# Altium integrated library National Semiconductor OtherParts.IntLib: 205 symbols (part 1 of 7)
Pins are listed as number, name and electrical type; pins without a type are passive.

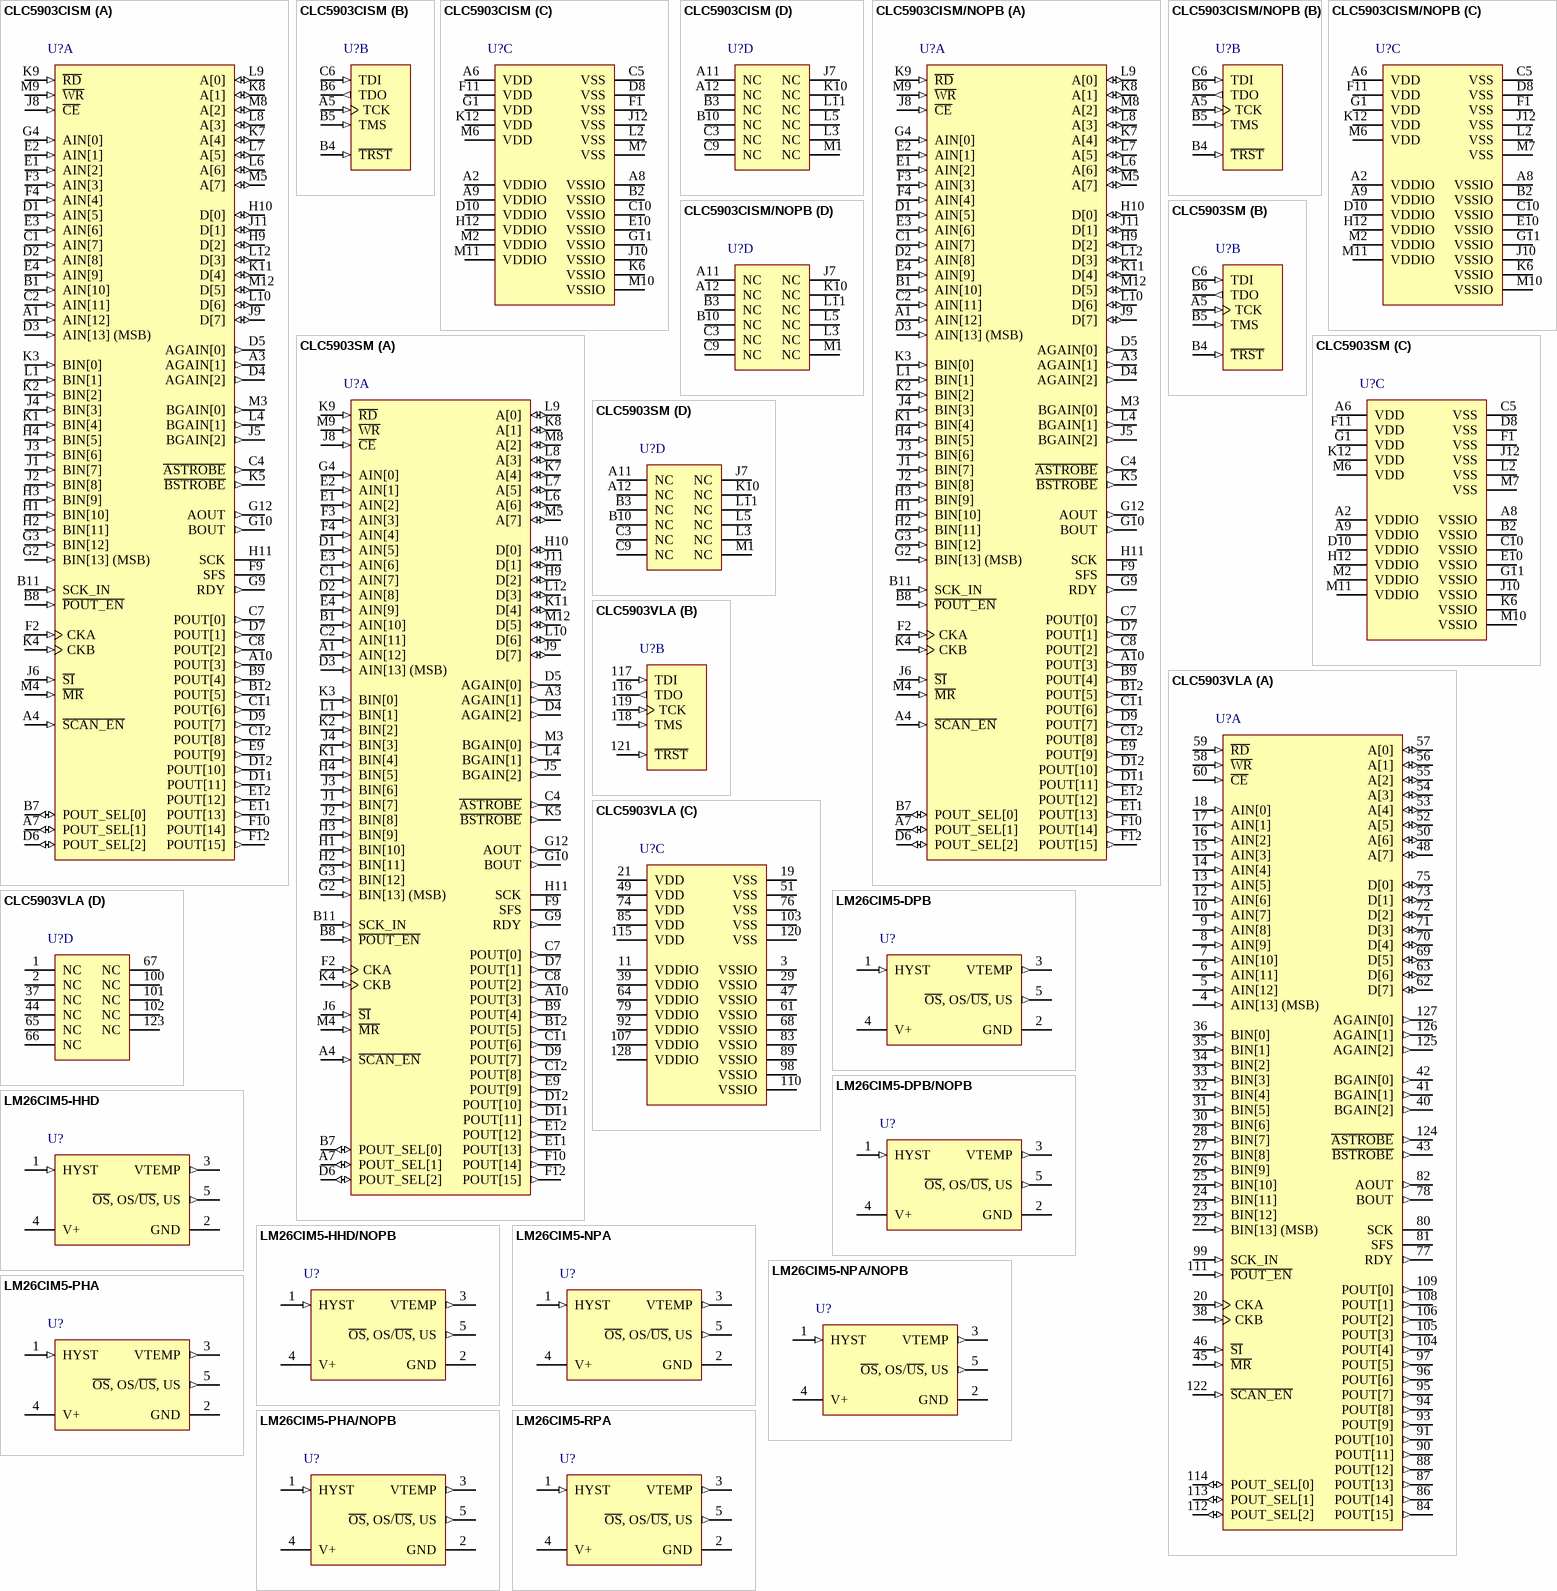
[diagram p0: symbols CLC5903CISM to LM26CIM5-RPA]

## CLC5903CISM
designator U?
Dual Digital Tuner/AGC, 128-pin FBGA; PartNumber: CLC5903CISM; Manufacturer: National Semiconductor; PackageTopMarking: NSUZXYTT*CLC5903*CISM; PowerWise: N; CompType: OtherParts; High-Reliability: Y; DatasheetVersion: Jun-2004; PackageVersion: revA, Nov-2005; PackageReference: SLC128B; PackageDescription: FBGA, Plastic, Laminated, 11 x 11 x 1.4mm Body, 128 Ball, 0.8mm Pitch; RoHS: Y; PinCount: 128; ComponentLink1Description: Manufacturer URL; ComponentLink1URL: http://www.national.com/; ComponentLink2Description: CLC5903 Datasheet; ComponentLink2URL: http://www.national.com/ds/CL/CLC5903.pdf; ComponentLink3Description: CLC5903 Web Page; ComponentLink3URL: http://www.national.com/pf/CL/CLC5903.html; ComponentLink4Description: SLC128B Package Page; ComponentLink4URL: http://www.national.com/packaging/folders/slc128b.html
footprint SLC128B (BGA, 128-Leads, Body 11x11mm, Pitch 0.8mm)
part A pins: A1 AIN[12] (in), A3 AGAIN[1] (out), A4 ~{SCAN_EN} (in), A7 POUT_SEL[1] (io), A10 POUT[3] (out), B1 AIN[10] (in), B7 POUT_SEL[0] (io), B8 ~{POUT_EN} (in), B9 POUT[4] (out), B11 SCK_IN (in), B12 POUT[5] (out), C1 AIN[7] (in), C2 AIN[11] (in), C4 ~{ASTROBE} (out), C7 POUT[0] (out), C8 POUT[2] (out), C11 POUT[6] (out), C12 POUT[8] (out), D1 AIN[5] (in), D2 AIN[8] (in), D3 AIN[13] (MSB) (in), D4 AGAIN[2] (out), D5 AGAIN[0] (out), D6 POUT_SEL[2] (io), D7 POUT[1] (out), D9 POUT[7] (out), D11 POUT[11] (out), D12 POUT[10] (out), E1 AIN[2] (in), E2 AIN[1] (in), E3 AIN[6] (in), E4 AIN[9] (in), E9 POUT[9] (out), E11 POUT[13] (out), E12 POUT[12] (out), F2 CKA (in), F3 AIN[3] (in), F4 AIN[4] (in), F9 SFS, F10 POUT[14] (out), F12 POUT[15] (out), G2 BIN[13] (MSB) (in), G3 BIN[12] (in), G4 AIN[0] (in), G9 RDY (out), G10 BOUT (out), G12 AOUT (out), H1 BIN[10] (in), H2 BIN[11] (in), H3 BIN[9] (in), H4 BIN[5] (in), H9 D[2] (io), H10 D[0] (io), H11 SCK, J1 BIN[7] (in), J2 BIN[8] (in), J3 BIN[6] (in), J4 BIN[3] (in), J5 BGAIN[2] (out), J6 ~{SI} (in), J8 ~{CE} (in), J9 D[7] (io), J11 D[1] (io), K1 BIN[4] (in), K2 BIN[2] (in), K3 BIN[0] (in), K4 CKB (in), K5 ~{BSTROBE} (out), K7 A[4] (io), K8 A[1] (io), K9 ~{RD} (in), K11 D[4] (io), L1 BIN[1] (in), L4 BGAIN[1] (out), L6 A[6] (io), L7 A[5] (io), L8 A[3] (io), L9 A[0] (io), L10 D[6] (io), L12 D[3] (io), M3 BGAIN[0] (out), M4 ~{MR} (in), M5 A[7] (io), M8 A[2] (io), M9 ~{WR} (in), M12 D[5] (io)
part B pins: A5 TCK (in), B4 ~{TRST} (in), B5 TMS (in), B6 TDO (out), C6 TDI (in)
part C pins: A2 VDDIO (power), A6 VDD (power), A8 VSSIO (power), A9 VDDIO (power), B2 VSSIO (power), C5 VSS (power), C10 VSSIO (power), D8 VSS (power), D10 VDDIO (power), E10 VSSIO (power), F1 VSS (power), F11 VDD (power), G1 VDD (power), G11 VSSIO (power), H12 VDDIO (power), J10 VSSIO (power), J12 VSS (power), K6 VSSIO (power), K12 VDD (power), L2 VSS (power), M2 VDDIO (power), M6 VDD (power), M7 VSS (power), M10 VSSIO (power), M11 VDDIO (power)
part D pins: A11 NC, A12 NC, B3 NC, B10 NC, C3 NC, C9 NC, J7 NC, K10 NC, L3 NC, L5 NC, L11 NC, M1 NC

## CLC5903CISM/NOPB
designator U?
Dual Digital Tuner/AGC, 128-pin FBGA, Pb-Free; PartNumber: CLC5903CISM/NOPB; Manufacturer: National Semiconductor; PackageTopMarking: NSUZXYTTE#*CLC5903*CISM; PowerWise: N; CompType: OtherParts; High-Reliability: Y; DatasheetVersion: Jun-2004; PackageVersion: revA, Nov-2005; PackageReference: SLC128B; PackageDescription: FBGA, Plastic, Laminated, 11 x 11 x 1.4mm Body, 128 Ball, 0.8mm Pitch; RoHS: Y; PinCount: 128; ComponentLink1Description: Manufacturer URL; ComponentLink1URL: http://www.national.com/; ComponentLink2Description: CLC5903 Datasheet; ComponentLink2URL: http://www.national.com/ds/CL/CLC5903.pdf; ComponentLink3Description: CLC5903 Web Page; ComponentLink3URL: http://www.national.com/pf/CL/CLC5903.html; ComponentLink4Description: SLC128B Package Page; ComponentLink4URL: http://www.national.com/packaging/folders/slc128b.html
footprint SLC128B (BGA, 128-Leads, Body 11x11mm, Pitch 0.8mm)
part A pins: A1 AIN[12] (in), A3 AGAIN[1] (out), A4 ~{SCAN_EN} (in), A7 POUT_SEL[1] (io), A10 POUT[3] (out), B1 AIN[10] (in), B7 POUT_SEL[0] (io), B8 ~{POUT_EN} (in), B9 POUT[4] (out), B11 SCK_IN (in), B12 POUT[5] (out), C1 AIN[7] (in), C2 AIN[11] (in), C4 ~{ASTROBE} (out), C7 POUT[0] (out), C8 POUT[2] (out), C11 POUT[6] (out), C12 POUT[8] (out), D1 AIN[5] (in), D2 AIN[8] (in), D3 AIN[13] (MSB) (in), D4 AGAIN[2] (out), D5 AGAIN[0] (out), D6 POUT_SEL[2] (io), D7 POUT[1] (out), D9 POUT[7] (out), D11 POUT[11] (out), D12 POUT[10] (out), E1 AIN[2] (in), E2 AIN[1] (in), E3 AIN[6] (in), E4 AIN[9] (in), E9 POUT[9] (out), E11 POUT[13] (out), E12 POUT[12] (out), F2 CKA (in), F3 AIN[3] (in), F4 AIN[4] (in), F9 SFS, F10 POUT[14] (out), F12 POUT[15] (out), G2 BIN[13] (MSB) (in), G3 BIN[12] (in), G4 AIN[0] (in), G9 RDY (out), G10 BOUT (out), G12 AOUT (out), H1 BIN[10] (in), H2 BIN[11] (in), H3 BIN[9] (in), H4 BIN[5] (in), H9 D[2] (io), H10 D[0] (io), H11 SCK, J1 BIN[7] (in), J2 BIN[8] (in), J3 BIN[6] (in), J4 BIN[3] (in), J5 BGAIN[2] (out), J6 ~{SI} (in), J8 ~{CE} (in), J9 D[7] (io), J11 D[1] (io), K1 BIN[4] (in), K2 BIN[2] (in), K3 BIN[0] (in), K4 CKB (in), K5 ~{BSTROBE} (out), K7 A[4] (io), K8 A[1] (io), K9 ~{RD} (in), K11 D[4] (io), L1 BIN[1] (in), L4 BGAIN[1] (out), L6 A[6] (io), L7 A[5] (io), L8 A[3] (io), L9 A[0] (io), L10 D[6] (io), L12 D[3] (io), M3 BGAIN[0] (out), M4 ~{MR} (in), M5 A[7] (io), M8 A[2] (io), M9 ~{WR} (in), M12 D[5] (io)
part B pins: A5 TCK (in), B4 ~{TRST} (in), B5 TMS (in), B6 TDO (out), C6 TDI (in)
part C pins: A2 VDDIO (power), A6 VDD (power), A8 VSSIO (power), A9 VDDIO (power), B2 VSSIO (power), C5 VSS (power), C10 VSSIO (power), D8 VSS (power), D10 VDDIO (power), E10 VSSIO (power), F1 VSS (power), F11 VDD (power), G1 VDD (power), G11 VSSIO (power), H12 VDDIO (power), J10 VSSIO (power), J12 VSS (power), K6 VSSIO (power), K12 VDD (power), L2 VSS (power), M2 VDDIO (power), M6 VDD (power), M7 VSS (power), M10 VSSIO (power), M11 VDDIO (power)
part D pins: A11 NC, A12 NC, B3 NC, B10 NC, C3 NC, C9 NC, J7 NC, K10 NC, L3 NC, L5 NC, L11 NC, M1 NC

## CLC5903SM
designator U?
Dual Digital Tuner / AGC, 128-pin FBGA; PartNumber: CLC5903SM; Manufacturer: National Semiconductor; PackageTopMarking: NSUZXYYTTE#*CLC5903SM; PowerWise: N; CompType: OtherParts; High-Reliability: Y; DatasheetVersion: Jun-2004; PackageVersion: revA, Oct-2003; PackageReference: SLC128A; PackageDescription: FBGA, Plastic, Laminated, 11 x 11 x 1.4mm Body, 128 Ball, 0.8mm Pitch; RoHS: N; PinCount: 128; ComponentLink1Description: Manufacturer URL; ComponentLink1URL: http://www.national.com/; ComponentLink2Description: CLC5903 Datasheet; ComponentLink2URL: http://www.national.com/ds/CL/CLC5903.pdf; ComponentLink3Description: CLC5903 Web Page; ComponentLink3URL: http://www.national.com/pf/CL/CLC5903.html; ComponentLink4Description: SLC128A Package Page; ComponentLink4URL: http://www.national.com/packaging/folders/slc128a.html
footprint SLC128A (BGA, 128-Leads, Body 11x11mm, Pitch 0.8mm)
part A pins: A1 AIN[12] (in), A3 AGAIN[1] (out), A4 ~{SCAN_EN} (in), A7 POUT_SEL[1] (io), A10 POUT[3] (out), B1 AIN[10] (in), B7 POUT_SEL[0] (io), B8 ~{POUT_EN} (in), B9 POUT[4] (out), B11 SCK_IN (in), B12 POUT[5] (out), C1 AIN[7] (in), C2 AIN[11] (in), C4 ~{ASTROBE} (out), C7 POUT[0] (out), C8 POUT[2] (out), C11 POUT[6] (out), C12 POUT[8] (out), D1 AIN[5] (in), D2 AIN[8] (in), D3 AIN[13] (MSB) (in), D4 AGAIN[2] (out), D5 AGAIN[0] (out), D6 POUT_SEL[2] (io), D7 POUT[1] (out), D9 POUT[7] (out), D11 POUT[11] (out), D12 POUT[10] (out), E1 AIN[2] (in), E2 AIN[1] (in), E3 AIN[6] (in), E4 AIN[9] (in), E9 POUT[9] (out), E11 POUT[13] (out), E12 POUT[12] (out), F2 CKA (in), F3 AIN[3] (in), F4 AIN[4] (in), F9 SFS, F10 POUT[14] (out), F12 POUT[15] (out), G2 BIN[13] (MSB) (in), G3 BIN[12] (in), G4 AIN[0] (in), G9 RDY (out), G10 BOUT (out), G12 AOUT (out), H1 BIN[10] (in), H2 BIN[11] (in), H3 BIN[9] (in), H4 BIN[5] (in), H9 D[2] (io), H10 D[0] (io), H11 SCK, J1 BIN[7] (in), J2 BIN[8] (in), J3 BIN[6] (in), J4 BIN[3] (in), J5 BGAIN[2] (out), J6 ~{SI} (in), J8 ~{CE} (in), J9 D[7] (io), J11 D[1] (io), K1 BIN[4] (in), K2 BIN[2] (in), K3 BIN[0] (in), K4 CKB (in), K5 ~{BSTROBE} (out), K7 A[4] (io), K8 A[1] (io), K9 ~{RD} (in), K11 D[4] (io), L1 BIN[1] (in), L4 BGAIN[1] (out), L6 A[6] (io), L7 A[5] (io), L8 A[3] (io), L9 A[0] (io), L10 D[6] (io), L12 D[3] (io), M3 BGAIN[0] (out), M4 ~{MR} (in), M5 A[7] (io), M8 A[2] (io), M9 ~{WR} (in), M12 D[5] (io)
part B pins: A5 TCK (in), B4 ~{TRST} (in), B5 TMS (in), B6 TDO (out), C6 TDI (in)
part C pins: A2 VDDIO (power), A6 VDD (power), A8 VSSIO (power), A9 VDDIO (power), B2 VSSIO (power), C5 VSS (power), C10 VSSIO (power), D8 VSS (power), D10 VDDIO (power), E10 VSSIO (power), F1 VSS (power), F11 VDD (power), G1 VDD (power), G11 VSSIO (power), H12 VDDIO (power), J10 VSSIO (power), J12 VSS (power), K6 VSSIO (power), K12 VDD (power), L2 VSS (power), M2 VDDIO (power), M6 VDD (power), M7 VSS (power), M10 VSSIO (power), M11 VDDIO (power)
part D pins: A11 NC, A12 NC, B3 NC, B10 NC, C3 NC, C9 NC, J7 NC, K10 NC, L3 NC, L5 NC, L11 NC, M1 NC

## CLC5903VLA
designator U?
Dual Digital Tuner / AGC, 128-pin PQFP; PartNumber: CLC5903VLA; Manufacturer: National Semiconductor; PackageTopMarking: NSUZXYYTTE#*CLC5903VLA; PowerWise: N; CompType: OtherParts; High-Reliability: Y; DatasheetVersion: Jun-2004; PackageVersion: revC, Jun-1998; PackageReference: VLA128A; PackageDescription: PQFP, (S), 14 x 20 x 2.7mm, 128 Lead; RoHS: N; PinCount: 128; ComponentLink1Description: Manufacturer URL; ComponentLink1URL: http://www.national.com/; ComponentLink2Description: CLC5903 Datasheet; ComponentLink2URL: http://www.national.com/ds/CL/CLC5903.pdf; ComponentLink3Description: CLC5903 Web Page; ComponentLink3URL: http://www.national.com/pf/CL/CLC5903.html; ComponentLink4Description: VLA128A Package Page; ComponentLink4URL: http://www.national.com/packaging/folders/vla128a.html
footprint VLA128A_N (Shrink QFP, 128-Leads, Body 20x14 mm, Pitch 0.5mm, IPC Medium Density)
footprint VLA128A_L (Shrink QFP, 128-Leads, Body 20x14 mm, Pitch 0.5mm, IPC High Density)
footprint VLA128A_M (Shrink QFP, 128-Leads, Body 20x14 mm, Pitch 0.5mm, IPC Low Density)
part A pins: 4 AIN[13] (MSB) (in), 5 AIN[12] (in), 6 AIN[11] (in), 7 AIN[10] (in), 8 AIN[9] (in), 9 AIN[8] (in), 10 AIN[7] (in), 12 AIN[6] (in), 13 AIN[5] (in), 14 AIN[4] (in), 15 AIN[3] (in), 16 AIN[2] (in), 17 AIN[1] (in), 18 AIN[0] (in), 20 CKA (in), 22 BIN[13] (MSB) (in), 23 BIN[12] (in), 24 BIN[11] (in), 25 BIN[10] (in), 26 BIN[9] (in), 27 BIN[8] (in), 28 BIN[7] (in), 30 BIN[6] (in), 31 BIN[5] (in), 32 BIN[4] (in), 33 BIN[3] (in), 34 BIN[2] (in), 35 BIN[1] (in), 36 BIN[0] (in), 38 CKB (in), 40 BGAIN[2] (out), 41 BGAIN[1] (out), 42 BGAIN[0] (out), 43 ~{BSTROBE} (out), 45 ~{MR} (in), 46 ~{SI} (in), 48 A[7] (io), 50 A[6] (io), 52 A[5] (io), 53 A[4] (io), 54 A[3] (io), 55 A[2] (io), 56 A[1] (io), 57 A[0] (io), 58 ~{WR} (in), 59 ~{RD} (in), 60 ~{CE} (in), 62 D[7] (io), 63 D[6] (io), 69 D[5] (io), 70 D[4] (io), 71 D[3] (io), 72 D[2] (io), 73 D[1] (io), 75 D[0] (io), 77 RDY (out), 78 BOUT (out), 80 SCK, 81 SFS, 82 AOUT (out), 84 POUT[15] (out), 86 POUT[14] (out), 87 POUT[13] (out), 88 POUT[12] (out), 90 POUT[11] (out), 91 POUT[10] (out), 93 POUT[9] (out), 94 POUT[8] (out), 95 POUT[7] (out), 96 POUT[6] (out), 97 POUT[5] (out), 99 SCK_IN (in), 104 POUT[4] (out), 105 POUT[3] (out), 106 POUT[2] (out), 108 POUT[1] (out), 109 POUT[0] (out), 111 ~{POUT_EN} (in), 112 POUT_SEL[2] (io), 113 POUT_SEL[1] (io), 114 POUT_SEL[0] (io), 122 ~{SCAN_EN} (in), 124 ~{ASTROBE} (out), 125 AGAIN[2] (out), 126 AGAIN[1] (out), 127 AGAIN[0] (out)
part B pins: 116 TDO (out), 117 TDI (in), 118 TMS (in), 119 TCK (in), 121 ~{TRST} (in)
part C pins: 3 VSSIO (power), 11 VDDIO (power), 19 VSS (power), 21 VDD (power), 29 VSSIO (power), 39 VDDIO (power), 47 VSSIO (power), 49 VDD (power), 51 VSS (power), 61 VSSIO (power), 64 VDDIO (power), 68 VSSIO (power), 74 VDD (power), 76 VSS (power), 79 VDDIO (power), 83 VSSIO (power), 85 VDD (power), 89 VSSIO (power), 92 VDDIO (power), 98 VSSIO (power), 103 VSS (power), 107 VDDIO (power), 110 VSSIO (power), 115 VDD (power), 120 VSS (power), 128 VDDIO (power)
part D pins: 1 NC, 2 NC, 37 NC, 44 NC, 65 NC, 66 NC, 67 NC, 100 NC, 101 NC, 102 NC, 123 NC

## LM26CIM5-DPB
designator U?
±3°C Accurate, Factory Preset Thermostat, 5-pin SOT-23; PartNumber: LM26CIM5-DPB; Manufacturer: National Semiconductor; PackageTopMarking: TDPB*XTT; PowerWise: Y; CompType: OtherParts; DatasheetVersion: Sep-2009; PackageVersion: revD, Aug-2008; PackageReference: MF05A; PackageDescription: Molded SOT-23, .115 x .063 x .040 in Body, 5 Lead, .0375 in Pitch; RoHS: Y; PinCount: 5; High-Reliability: Y; ComponentLink1Description: Manufacturer URL; ComponentLink1URL: http://www.national.com/; ComponentLink2Description: LM26 Datasheet; ComponentLink2URL: http://www.national.com/ds/LM/LM26.pdf; ComponentLink3Description: LM26 Web Page; ComponentLink3URL: http://www.national.com/pf/LM/LM26.html; ComponentLink4Description: MF05A Package Page; ComponentLink4URL: http://www.national.com/packaging/folders/mf05a.html
footprint MF05A_N (SOT23, 5-Leads, Body 2.9x1.6mm, Pitch 0.95mm, Lead Span 2.8mm, IPC Medium Density)
footprint MF05A_L (SOT23, 5-Leads, Body 2.9x1.6mm, Pitch 0.95mm, Lead Span 2.8mm, IPC High Density)
footprint MF05A_M (SOT23, 5-Leads, Body 2.9x1.6mm, Pitch 0.95mm, Lead Span 2.8mm, IPC Low Density)
pins: 1 HYST (in), 2 GND (power), 3 VTEMP (out), 4 V+ (power), 5 ~{OS}, OS/~{US}, US (out)

## LM26CIM5-DPB/NOPB
designator U?
±3°C Accurate, Factory Preset Thermostat, 5-pin SOT-23, Pb-Free; PartNumber: LM26CIM5-DPB/NOPB; Manufacturer: National Semiconductor; PackageTopMarking: TDPB*XTT; PowerWise: Y; CompType: OtherParts; DatasheetVersion: Sep-2009; PackageVersion: revD, Aug-2008; PackageReference: MF05A; PackageDescription: Molded SOT-23, .115 x .063 x .040 in Body, 5 Lead, .0375 in Pitch; RoHS: Y; PinCount: 5; High-Reliability: Y; ComponentLink1Description: Manufacturer URL; ComponentLink1URL: http://www.national.com/; ComponentLink2Description: LM26 Datasheet; ComponentLink2URL: http://www.national.com/ds/LM/LM26.pdf; ComponentLink3Description: LM26 Web Page; ComponentLink3URL: http://www.national.com/pf/LM/LM26.html; ComponentLink4Description: MF05A Package Page; ComponentLink4URL: http://www.national.com/packaging/folders/mf05a.html
footprint MF05A_N (SOT23, 5-Leads, Body 2.9x1.6mm, Pitch 0.95mm, Lead Span 2.8mm, IPC Medium Density)
footprint MF05A_L (SOT23, 5-Leads, Body 2.9x1.6mm, Pitch 0.95mm, Lead Span 2.8mm, IPC High Density)
footprint MF05A_M (SOT23, 5-Leads, Body 2.9x1.6mm, Pitch 0.95mm, Lead Span 2.8mm, IPC Low Density)
pins: 1 HYST (in), 2 GND (power), 3 VTEMP (out), 4 V+ (power), 5 ~{OS}, OS/~{US}, US (out)

## LM26CIM5-HHD
designator U?
±3°C Accurate, Factory Preset Thermostat, 5-pin SOT-23; PartNumber: LM26CIM5-HHD; Manufacturer: National Semiconductor; PackageTopMarking: THHD*XTT; PowerWise: Y; CompType: OtherParts; DatasheetVersion: Sep-2009; PackageVersion: revD, Aug-2008; PackageReference: MF05A; PackageDescription: Molded SOT-23, .115 x .063 x .040 in Body, 5 Lead, .0375 in Pitch; RoHS: N; PinCount: 5; High-Reliability: Y; ComponentLink1Description: Manufacturer URL; ComponentLink1URL: http://www.national.com/; ComponentLink2Description: LM26 Datasheet; ComponentLink2URL: http://www.national.com/ds/LM/LM26.pdf; ComponentLink3Description: LM26 Web Page; ComponentLink3URL: http://www.national.com/pf/LM/LM26.html; ComponentLink4Description: MF05A Package Page; ComponentLink4URL: http://www.national.com/packaging/folders/mf05a.html
footprint MF05A_N (SOT23, 5-Leads, Body 2.9x1.6mm, Pitch 0.95mm, Lead Span 2.8mm, IPC Medium Density)
footprint MF05A_L (SOT23, 5-Leads, Body 2.9x1.6mm, Pitch 0.95mm, Lead Span 2.8mm, IPC High Density)
footprint MF05A_M (SOT23, 5-Leads, Body 2.9x1.6mm, Pitch 0.95mm, Lead Span 2.8mm, IPC Low Density)
pins: 1 HYST (in), 2 GND (power), 3 VTEMP (out), 4 V+ (power), 5 ~{OS}, OS/~{US}, US (out)

## LM26CIM5-HHD/NOPB
designator U?
±3°C Accurate, Factory Preset Thermostat, 5-pin SOT-23, Pb-Free; PartNumber: LM26CIM5-HHD/NOPB; Manufacturer: National Semiconductor; PackageTopMarking: THHD*XTT; PowerWise: Y; CompType: OtherParts; DatasheetVersion: Sep-2009; PackageVersion: revD, Aug-2008; PackageReference: MF05A; PackageDescription: Molded SOT-23, .115 x .063 x .040 in Body, 5 Lead, .0375 in Pitch; RoHS: Y; PinCount: 5; High-Reliability: Y; ComponentLink1Description: Manufacturer URL; ComponentLink1URL: http://www.national.com/; ComponentLink2Description: LM26 Datasheet; ComponentLink2URL: http://www.national.com/ds/LM/LM26.pdf; ComponentLink3Description: LM26 Web Page; ComponentLink3URL: http://www.national.com/pf/LM/LM26.html; ComponentLink4Description: MF05A Package Page; ComponentLink4URL: http://www.national.com/packaging/folders/mf05a.html
footprint MF05A_N (SOT23, 5-Leads, Body 2.9x1.6mm, Pitch 0.95mm, Lead Span 2.8mm, IPC Medium Density)
footprint MF05A_L (SOT23, 5-Leads, Body 2.9x1.6mm, Pitch 0.95mm, Lead Span 2.8mm, IPC High Density)
footprint MF05A_M (SOT23, 5-Leads, Body 2.9x1.6mm, Pitch 0.95mm, Lead Span 2.8mm, IPC Low Density)
pins: 1 HYST (in), 2 GND (power), 3 VTEMP (out), 4 V+ (power), 5 ~{OS}, OS/~{US}, US (out)

## LM26CIM5-NPA
designator U?
±3°C Accurate, Factory Preset Thermostat, 5-pin SOT-23; PartNumber: LM26CIM5-NPA; Manufacturer: National Semiconductor; PackageTopMarking: TNPA*XTT; PowerWise: Y; CompType: OtherParts; DatasheetVersion: Sep-2009; PackageVersion: revD, Aug-2008; PackageReference: MF05A; PackageDescription: Molded SOT-23, .115 x .063 x .040 in Body, 5 Lead, .0375 in Pitch; RoHS: N; PinCount: 5; High-Reliability: Y; ComponentLink1Description: Manufacturer URL; ComponentLink1URL: http://www.national.com/; ComponentLink2Description: LM26 Datasheet; ComponentLink2URL: http://www.national.com/ds/LM/LM26.pdf; ComponentLink3Description: LM26 Web Page; ComponentLink3URL: http://www.national.com/pf/LM/LM26.html; ComponentLink4Description: MF05A Package Page; ComponentLink4URL: http://www.national.com/packaging/folders/mf05a.html
footprint MF05A_N (SOT23, 5-Leads, Body 2.9x1.6mm, Pitch 0.95mm, Lead Span 2.8mm, IPC Medium Density)
footprint MF05A_L (SOT23, 5-Leads, Body 2.9x1.6mm, Pitch 0.95mm, Lead Span 2.8mm, IPC High Density)
footprint MF05A_M (SOT23, 5-Leads, Body 2.9x1.6mm, Pitch 0.95mm, Lead Span 2.8mm, IPC Low Density)
pins: 1 HYST (in), 2 GND (power), 3 VTEMP (out), 4 V+ (power), 5 ~{OS}, OS/~{US}, US (out)

## LM26CIM5-NPA/NOPB
designator U?
±3°C Accurate, Factory Preset Thermostat, 5-pin SOT-23, Pb-Free; PartNumber: LM26CIM5-NPA/NOPB; Manufacturer: National Semiconductor; PackageTopMarking: TNPA*XTT; PowerWise: Y; CompType: OtherParts; DatasheetVersion: Sep-2009; PackageVersion: revD, Aug-2008; PackageReference: MF05A; PackageDescription: Molded SOT-23, .115 x .063 x .040 in Body, 5 Lead, .0375 in Pitch; RoHS: Y; PinCount: 5; High-Reliability: Y; ComponentLink1Description: Manufacturer URL; ComponentLink1URL: http://www.national.com/; ComponentLink2Description: LM26 Datasheet; ComponentLink2URL: http://www.national.com/ds/LM/LM26.pdf; ComponentLink3Description: LM26 Web Page; ComponentLink3URL: http://www.national.com/pf/LM/LM26.html; ComponentLink4Description: MF05A Package Page; ComponentLink4URL: http://www.national.com/packaging/folders/mf05a.html
footprint MF05A_N (SOT23, 5-Leads, Body 2.9x1.6mm, Pitch 0.95mm, Lead Span 2.8mm, IPC Medium Density)
footprint MF05A_L (SOT23, 5-Leads, Body 2.9x1.6mm, Pitch 0.95mm, Lead Span 2.8mm, IPC High Density)
footprint MF05A_M (SOT23, 5-Leads, Body 2.9x1.6mm, Pitch 0.95mm, Lead Span 2.8mm, IPC Low Density)
pins: 1 HYST (in), 2 GND (power), 3 VTEMP (out), 4 V+ (power), 5 ~{OS}, OS/~{US}, US (out)

## LM26CIM5-PHA
designator U?
±3°C Accurate, Factory Preset Thermostat, 5-pin SOT-23; PartNumber: LM26CIM5-PHA; Manufacturer: National Semiconductor; PackageTopMarking: TPHA*XTT; PowerWise: Y; CompType: OtherParts; DatasheetVersion: Sep-2009; PackageVersion: revD, Aug-2008; PackageReference: MF05A; PackageDescription: Molded SOT-23, .115 x .063 x .040 in Body, 5 Lead, .0375 in Pitch; RoHS: N; PinCount: 5; High-Reliability: Y; ComponentLink1Description: Manufacturer URL; ComponentLink1URL: http://www.national.com/; ComponentLink2Description: LM26 Datasheet; ComponentLink2URL: http://www.national.com/ds/LM/LM26.pdf; ComponentLink3Description: LM26 Web Page; ComponentLink3URL: http://www.national.com/pf/LM/LM26.html; ComponentLink4Description: MF05A Package Page; ComponentLink4URL: http://www.national.com/packaging/folders/mf05a.html
footprint MF05A_N (SOT23, 5-Leads, Body 2.9x1.6mm, Pitch 0.95mm, Lead Span 2.8mm, IPC Medium Density)
footprint MF05A_L (SOT23, 5-Leads, Body 2.9x1.6mm, Pitch 0.95mm, Lead Span 2.8mm, IPC High Density)
footprint MF05A_M (SOT23, 5-Leads, Body 2.9x1.6mm, Pitch 0.95mm, Lead Span 2.8mm, IPC Low Density)
pins: 1 HYST (in), 2 GND (power), 3 VTEMP (out), 4 V+ (power), 5 ~{OS}, OS/~{US}, US (out)

## LM26CIM5-PHA/NOPB
designator U?
±3°C Accurate, Factory Preset Thermostat, 5-pin SOT-23, Pb-Free; PartNumber: LM26CIM5-PHA/NOPB; Manufacturer: National Semiconductor; PackageTopMarking: TPHA*XTT; PowerWise: Y; CompType: OtherParts; DatasheetVersion: Sep-2009; PackageVersion: revD, Aug-2008; PackageReference: MF05A; PackageDescription: Molded SOT-23, .115 x .063 x .040 in Body, 5 Lead, .0375 in Pitch; RoHS: Y; PinCount: 5; High-Reliability: Y; ComponentLink1Description: Manufacturer URL; ComponentLink1URL: http://www.national.com/; ComponentLink2Description: LM26 Datasheet; ComponentLink2URL: http://www.national.com/ds/LM/LM26.pdf; ComponentLink3Description: LM26 Web Page; ComponentLink3URL: http://www.national.com/pf/LM/LM26.html; ComponentLink4Description: MF05A Package Page; ComponentLink4URL: http://www.national.com/packaging/folders/mf05a.html
footprint MF05A_N (SOT23, 5-Leads, Body 2.9x1.6mm, Pitch 0.95mm, Lead Span 2.8mm, IPC Medium Density)
footprint MF05A_L (SOT23, 5-Leads, Body 2.9x1.6mm, Pitch 0.95mm, Lead Span 2.8mm, IPC High Density)
footprint MF05A_M (SOT23, 5-Leads, Body 2.9x1.6mm, Pitch 0.95mm, Lead Span 2.8mm, IPC Low Density)
pins: 1 HYST (in), 2 GND (power), 3 VTEMP (out), 4 V+ (power), 5 ~{OS}, OS/~{US}, US (out)

## LM26CIM5-RPA
designator U?
±3°C Accurate, Factory Preset Thermostat, 5-pin SOT-23; PartNumber: LM26CIM5-RPA; Manufacturer: National Semiconductor; PackageTopMarking: TRPA*XTT; PowerWise: Y; CompType: OtherParts; DatasheetVersion: Sep-2009; PackageVersion: revD, Aug-2008; PackageReference: MF05A; PackageDescription: Molded SOT-23, .115 x .063 x .040 in Body, 5 Lead, .0375 in Pitch; RoHS: N; PinCount: 5; High-Reliability: Y; ComponentLink1Description: Manufacturer URL; ComponentLink1URL: http://www.national.com/; ComponentLink2Description: LM26 Datasheet; ComponentLink2URL: http://www.national.com/ds/LM/LM26.pdf; ComponentLink3Description: LM26 Web Page; ComponentLink3URL: http://www.national.com/pf/LM/LM26.html; ComponentLink4Description: MF05A Package Page; ComponentLink4URL: http://www.national.com/packaging/folders/mf05a.html
footprint MF05A_N (SOT23, 5-Leads, Body 2.9x1.6mm, Pitch 0.95mm, Lead Span 2.8mm, IPC Medium Density)
footprint MF05A_L (SOT23, 5-Leads, Body 2.9x1.6mm, Pitch 0.95mm, Lead Span 2.8mm, IPC High Density)
footprint MF05A_M (SOT23, 5-Leads, Body 2.9x1.6mm, Pitch 0.95mm, Lead Span 2.8mm, IPC Low Density)
pins: 1 HYST (in), 2 GND (power), 3 VTEMP (out), 4 V+ (power), 5 ~{OS}, OS/~{US}, US (out)

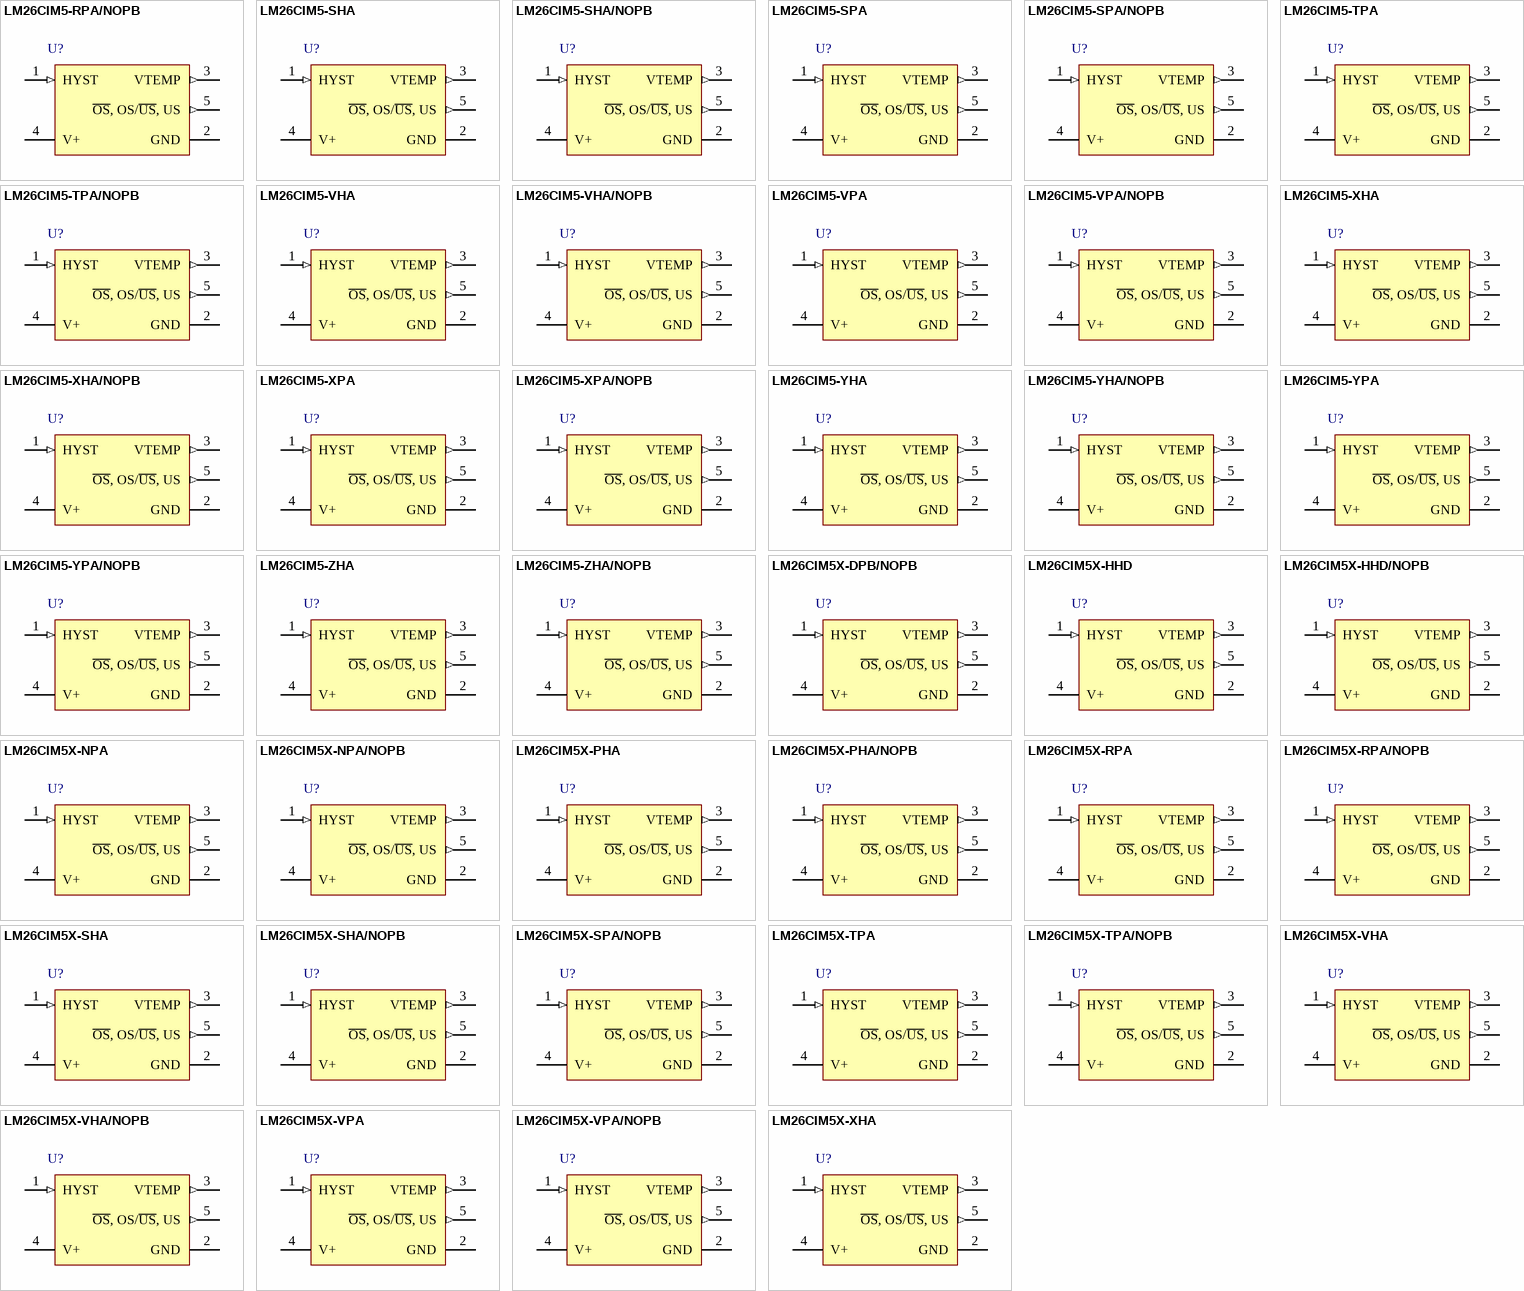
[diagram p1: symbols LM26CIM5-RPA/NOPB to LM26CIM5X-XHA]

## LM26CIM5-RPA/NOPB
designator U?
±3°C Accurate, Factory Preset Thermostat, 5-pin SOT-23, Pb-Free; PartNumber: LM26CIM5-RPA/NOPB; Manufacturer: National Semiconductor; PackageTopMarking: TRPA*XTT; PowerWise: Y; CompType: OtherParts; DatasheetVersion: Sep-2009; PackageVersion: revD, Aug-2008; PackageReference: MF05A; PackageDescription: Molded SOT-23, .115 x .063 x .040 in Body, 5 Lead, .0375 in Pitch; RoHS: Y; PinCount: 5; High-Reliability: Y; ComponentLink1Description: Manufacturer URL; ComponentLink1URL: http://www.national.com/; ComponentLink2Description: LM26 Datasheet; ComponentLink2URL: http://www.national.com/ds/LM/LM26.pdf; ComponentLink3Description: LM26 Web Page; ComponentLink3URL: http://www.national.com/pf/LM/LM26.html; ComponentLink4Description: MF05A Package Page; ComponentLink4URL: http://www.national.com/packaging/folders/mf05a.html
footprint MF05A_N (SOT23, 5-Leads, Body 2.9x1.6mm, Pitch 0.95mm, Lead Span 2.8mm, IPC Medium Density)
footprint MF05A_L (SOT23, 5-Leads, Body 2.9x1.6mm, Pitch 0.95mm, Lead Span 2.8mm, IPC High Density)
footprint MF05A_M (SOT23, 5-Leads, Body 2.9x1.6mm, Pitch 0.95mm, Lead Span 2.8mm, IPC Low Density)
pins: 1 HYST (in), 2 GND (power), 3 VTEMP (out), 4 V+ (power), 5 ~{OS}, OS/~{US}, US (out)

## LM26CIM5-SHA
designator U?
±3°C Accurate, Factory Preset Thermostat, 5-pin SOT-23; PartNumber: LM26CIM5-SHA; Manufacturer: National Semiconductor; PackageTopMarking: TSHA*XTT; PowerWise: Y; CompType: OtherParts; DatasheetVersion: Sep-2009; PackageVersion: revD, Aug-2008; PackageReference: MF05A; PackageDescription: Molded SOT-23, .115 x .063 x .040 in Body, 5 Lead, .0375 in Pitch; RoHS: N; PinCount: 5; High-Reliability: Y; ComponentLink1Description: Manufacturer URL; ComponentLink1URL: http://www.national.com/; ComponentLink2Description: LM26 Datasheet; ComponentLink2URL: http://www.national.com/ds/LM/LM26.pdf; ComponentLink3Description: LM26 Web Page; ComponentLink3URL: http://www.national.com/pf/LM/LM26.html; ComponentLink4Description: MF05A Package Page; ComponentLink4URL: http://www.national.com/packaging/folders/mf05a.html
footprint MF05A_N (SOT23, 5-Leads, Body 2.9x1.6mm, Pitch 0.95mm, Lead Span 2.8mm, IPC Medium Density)
footprint MF05A_L (SOT23, 5-Leads, Body 2.9x1.6mm, Pitch 0.95mm, Lead Span 2.8mm, IPC High Density)
footprint MF05A_M (SOT23, 5-Leads, Body 2.9x1.6mm, Pitch 0.95mm, Lead Span 2.8mm, IPC Low Density)
pins: 1 HYST (in), 2 GND (power), 3 VTEMP (out), 4 V+ (power), 5 ~{OS}, OS/~{US}, US (out)

## LM26CIM5-SHA/NOPB
designator U?
±3°C Accurate, Factory Preset Thermostat, 5-pin SOT-23, Pb-Free; PartNumber: LM26CIM5-SHA/NOPB; Manufacturer: National Semiconductor; PackageTopMarking: TSHA*XTT; PowerWise: Y; CompType: OtherParts; DatasheetVersion: Sep-2009; PackageVersion: revD, Aug-2008; PackageReference: MF05A; PackageDescription: Molded SOT-23, .115 x .063 x .040 in Body, 5 Lead, .0375 in Pitch; RoHS: Y; PinCount: 5; High-Reliability: Y; ComponentLink1Description: Manufacturer URL; ComponentLink1URL: http://www.national.com/; ComponentLink2Description: LM26 Datasheet; ComponentLink2URL: http://www.national.com/ds/LM/LM26.pdf; ComponentLink3Description: LM26 Web Page; ComponentLink3URL: http://www.national.com/pf/LM/LM26.html; ComponentLink4Description: MF05A Package Page; ComponentLink4URL: http://www.national.com/packaging/folders/mf05a.html
footprint MF05A_N (SOT23, 5-Leads, Body 2.9x1.6mm, Pitch 0.95mm, Lead Span 2.8mm, IPC Medium Density)
footprint MF05A_L (SOT23, 5-Leads, Body 2.9x1.6mm, Pitch 0.95mm, Lead Span 2.8mm, IPC High Density)
footprint MF05A_M (SOT23, 5-Leads, Body 2.9x1.6mm, Pitch 0.95mm, Lead Span 2.8mm, IPC Low Density)
pins: 1 HYST (in), 2 GND (power), 3 VTEMP (out), 4 V+ (power), 5 ~{OS}, OS/~{US}, US (out)

## LM26CIM5-SPA
designator U?
±3°C Accurate, Factory Preset Thermostat, 5-pin SOT-23; PartNumber: LM26CIM5-SPA; Manufacturer: National Semiconductor; PackageTopMarking: TSPA*XTT; PowerWise: Y; CompType: OtherParts; DatasheetVersion: Sep-2009; PackageVersion: revD, Aug-2008; PackageReference: MF05A; PackageDescription: Molded SOT-23, .115 x .063 x .040 in Body, 5 Lead, .0375 in Pitch; RoHS: N; PinCount: 5; High-Reliability: Y; ComponentLink1Description: Manufacturer URL; ComponentLink1URL: http://www.national.com/; ComponentLink2Description: LM26 Datasheet; ComponentLink2URL: http://www.national.com/ds/LM/LM26.pdf; ComponentLink3Description: LM26 Web Page; ComponentLink3URL: http://www.national.com/pf/LM/LM26.html; ComponentLink4Description: MF05A Package Page; ComponentLink4URL: http://www.national.com/packaging/folders/mf05a.html
footprint MF05A_N (SOT23, 5-Leads, Body 2.9x1.6mm, Pitch 0.95mm, Lead Span 2.8mm, IPC Medium Density)
footprint MF05A_L (SOT23, 5-Leads, Body 2.9x1.6mm, Pitch 0.95mm, Lead Span 2.8mm, IPC High Density)
footprint MF05A_M (SOT23, 5-Leads, Body 2.9x1.6mm, Pitch 0.95mm, Lead Span 2.8mm, IPC Low Density)
pins: 1 HYST (in), 2 GND (power), 3 VTEMP (out), 4 V+ (power), 5 ~{OS}, OS/~{US}, US (out)

## LM26CIM5-SPA/NOPB
designator U?
±3°C Accurate, Factory Preset Thermostat, 5-pin SOT-23, Pb-Free; PartNumber: LM26CIM5-SPA/NOPB; Manufacturer: National Semiconductor; PackageTopMarking: TSPA*XTT; PowerWise: Y; CompType: OtherParts; DatasheetVersion: Sep-2009; PackageVersion: revD, Aug-2008; PackageReference: MF05A; PackageDescription: Molded SOT-23, .115 x .063 x .040 in Body, 5 Lead, .0375 in Pitch; RoHS: Y; PinCount: 5; High-Reliability: Y; ComponentLink1Description: Manufacturer URL; ComponentLink1URL: http://www.national.com/; ComponentLink2Description: LM26 Datasheet; ComponentLink2URL: http://www.national.com/ds/LM/LM26.pdf; ComponentLink3Description: LM26 Web Page; ComponentLink3URL: http://www.national.com/pf/LM/LM26.html; ComponentLink4Description: MF05A Package Page; ComponentLink4URL: http://www.national.com/packaging/folders/mf05a.html
footprint MF05A_N (SOT23, 5-Leads, Body 2.9x1.6mm, Pitch 0.95mm, Lead Span 2.8mm, IPC Medium Density)
footprint MF05A_L (SOT23, 5-Leads, Body 2.9x1.6mm, Pitch 0.95mm, Lead Span 2.8mm, IPC High Density)
footprint MF05A_M (SOT23, 5-Leads, Body 2.9x1.6mm, Pitch 0.95mm, Lead Span 2.8mm, IPC Low Density)
pins: 1 HYST (in), 2 GND (power), 3 VTEMP (out), 4 V+ (power), 5 ~{OS}, OS/~{US}, US (out)

## LM26CIM5-TPA
designator U?
±3°C Accurate, Factory Preset Thermostat, 5-pin SOT-23; PartNumber: LM26CIM5-TPA; Manufacturer: National Semiconductor; PackageTopMarking: TTPA*XTT; PowerWise: Y; CompType: OtherParts; DatasheetVersion: Sep-2009; PackageVersion: revD, Aug-2008; PackageReference: MF05A; PackageDescription: Molded SOT-23, .115 x .063 x .040 in Body, 5 Lead, .0375 in Pitch; RoHS: N; PinCount: 5; High-Reliability: Y; ComponentLink1Description: Manufacturer URL; ComponentLink1URL: http://www.national.com/; ComponentLink2Description: LM26 Datasheet; ComponentLink2URL: http://www.national.com/ds/LM/LM26.pdf; ComponentLink3Description: LM26 Web Page; ComponentLink3URL: http://www.national.com/pf/LM/LM26.html; ComponentLink4Description: MF05A Package Page; ComponentLink4URL: http://www.national.com/packaging/folders/mf05a.html
footprint MF05A_N (SOT23, 5-Leads, Body 2.9x1.6mm, Pitch 0.95mm, Lead Span 2.8mm, IPC Medium Density)
footprint MF05A_L (SOT23, 5-Leads, Body 2.9x1.6mm, Pitch 0.95mm, Lead Span 2.8mm, IPC High Density)
footprint MF05A_M (SOT23, 5-Leads, Body 2.9x1.6mm, Pitch 0.95mm, Lead Span 2.8mm, IPC Low Density)
pins: 1 HYST (in), 2 GND (power), 3 VTEMP (out), 4 V+ (power), 5 ~{OS}, OS/~{US}, US (out)

## LM26CIM5-TPA/NOPB
designator U?
±3°C Accurate, Factory Preset Thermostat, 5-pin SOT-23, Pb-Free; PartNumber: LM26CIM5-TPA/NOPB; Manufacturer: National Semiconductor; PackageTopMarking: TTPA*XTT; PowerWise: Y; CompType: OtherParts; DatasheetVersion: Sep-2009; PackageVersion: revD, Aug-2008; PackageReference: MF05A; PackageDescription: Molded SOT-23, .115 x .063 x .040 in Body, 5 Lead, .0375 in Pitch; RoHS: Y; PinCount: 5; High-Reliability: Y; ComponentLink1Description: Manufacturer URL; ComponentLink1URL: http://www.national.com/; ComponentLink2Description: LM26 Datasheet; ComponentLink2URL: http://www.national.com/ds/LM/LM26.pdf; ComponentLink3Description: LM26 Web Page; ComponentLink3URL: http://www.national.com/pf/LM/LM26.html; ComponentLink4Description: MF05A Package Page; ComponentLink4URL: http://www.national.com/packaging/folders/mf05a.html
footprint MF05A_N (SOT23, 5-Leads, Body 2.9x1.6mm, Pitch 0.95mm, Lead Span 2.8mm, IPC Medium Density)
footprint MF05A_L (SOT23, 5-Leads, Body 2.9x1.6mm, Pitch 0.95mm, Lead Span 2.8mm, IPC High Density)
footprint MF05A_M (SOT23, 5-Leads, Body 2.9x1.6mm, Pitch 0.95mm, Lead Span 2.8mm, IPC Low Density)
pins: 1 HYST (in), 2 GND (power), 3 VTEMP (out), 4 V+ (power), 5 ~{OS}, OS/~{US}, US (out)

## LM26CIM5-VHA
designator U?
±3°C Accurate, Factory Preset Thermostat, 5-pin SOT-23; PartNumber: LM26CIM5-VHA; Manufacturer: National Semiconductor; PackageTopMarking: TVHA*XTT; PowerWise: Y; CompType: OtherParts; DatasheetVersion: Sep-2009; PackageVersion: revD, Aug-2008; PackageReference: MF05A; PackageDescription: Molded SOT-23, .115 x .063 x .040 in Body, 5 Lead, .0375 in Pitch; RoHS: N; PinCount: 5; High-Reliability: Y; ComponentLink1Description: Manufacturer URL; ComponentLink1URL: http://www.national.com/; ComponentLink2Description: LM26 Datasheet; ComponentLink2URL: http://www.national.com/ds/LM/LM26.pdf; ComponentLink3Description: LM26 Web Page; ComponentLink3URL: http://www.national.com/pf/LM/LM26.html; ComponentLink4Description: MF05A Package Page; ComponentLink4URL: http://www.national.com/packaging/folders/mf05a.html
footprint MF05A_N (SOT23, 5-Leads, Body 2.9x1.6mm, Pitch 0.95mm, Lead Span 2.8mm, IPC Medium Density)
footprint MF05A_L (SOT23, 5-Leads, Body 2.9x1.6mm, Pitch 0.95mm, Lead Span 2.8mm, IPC High Density)
footprint MF05A_M (SOT23, 5-Leads, Body 2.9x1.6mm, Pitch 0.95mm, Lead Span 2.8mm, IPC Low Density)
pins: 1 HYST (in), 2 GND (power), 3 VTEMP (out), 4 V+ (power), 5 ~{OS}, OS/~{US}, US (out)

## LM26CIM5-VHA/NOPB
designator U?
±3°C Accurate, Factory Preset Thermostat, 5-pin SOT-23, Pb-Free; PartNumber: LM26CIM5-VHA/NOPB; Manufacturer: National Semiconductor; PackageTopMarking: TVHA*XTT; PowerWise: Y; CompType: OtherParts; DatasheetVersion: Sep-2009; PackageVersion: revD, Aug-2008; PackageReference: MF05A; PackageDescription: Molded SOT-23, .115 x .063 x .040 in Body, 5 Lead, .0375 in Pitch; RoHS: Y; PinCount: 5; High-Reliability: Y; ComponentLink1Description: Manufacturer URL; ComponentLink1URL: http://www.national.com/; ComponentLink2Description: LM26 Datasheet; ComponentLink2URL: http://www.national.com/ds/LM/LM26.pdf; ComponentLink3Description: LM26 Web Page; ComponentLink3URL: http://www.national.com/pf/LM/LM26.html; ComponentLink4Description: MF05A Package Page; ComponentLink4URL: http://www.national.com/packaging/folders/mf05a.html
footprint MF05A_N (SOT23, 5-Leads, Body 2.9x1.6mm, Pitch 0.95mm, Lead Span 2.8mm, IPC Medium Density)
footprint MF05A_L (SOT23, 5-Leads, Body 2.9x1.6mm, Pitch 0.95mm, Lead Span 2.8mm, IPC High Density)
footprint MF05A_M (SOT23, 5-Leads, Body 2.9x1.6mm, Pitch 0.95mm, Lead Span 2.8mm, IPC Low Density)
pins: 1 HYST (in), 2 GND (power), 3 VTEMP (out), 4 V+ (power), 5 ~{OS}, OS/~{US}, US (out)

## LM26CIM5-VPA
designator U?
±3°C Accurate, Factory Preset Thermostat, 5-pin SOT-23; PartNumber: LM26CIM5-VPA; Manufacturer: National Semiconductor; PackageTopMarking: TVPA*XTT; PowerWise: Y; CompType: OtherParts; DatasheetVersion: Sep-2009; PackageVersion: revD, Aug-2008; PackageReference: MF05A; PackageDescription: Molded SOT-23, .115 x .063 x .040 in Body, 5 Lead, .0375 in Pitch; RoHS: N; PinCount: 5; High-Reliability: Y; ComponentLink1Description: Manufacturer URL; ComponentLink1URL: http://www.national.com/; ComponentLink2Description: LM26 Datasheet; ComponentLink2URL: http://www.national.com/ds/LM/LM26.pdf; ComponentLink3Description: LM26 Web Page; ComponentLink3URL: http://www.national.com/pf/LM/LM26.html; ComponentLink4Description: MF05A Package Page; ComponentLink4URL: http://www.national.com/packaging/folders/mf05a.html
footprint MF05A_N (SOT23, 5-Leads, Body 2.9x1.6mm, Pitch 0.95mm, Lead Span 2.8mm, IPC Medium Density)
footprint MF05A_L (SOT23, 5-Leads, Body 2.9x1.6mm, Pitch 0.95mm, Lead Span 2.8mm, IPC High Density)
footprint MF05A_M (SOT23, 5-Leads, Body 2.9x1.6mm, Pitch 0.95mm, Lead Span 2.8mm, IPC Low Density)
pins: 1 HYST (in), 2 GND (power), 3 VTEMP (out), 4 V+ (power), 5 ~{OS}, OS/~{US}, US (out)

## LM26CIM5-VPA/NOPB
designator U?
±3°C Accurate, Factory Preset Thermostat, 5-pin SOT-23, Pb-Free; PartNumber: LM26CIM5-VPA/NOPB; Manufacturer: National Semiconductor; PackageTopMarking: TVPA*XTT; PowerWise: Y; CompType: OtherParts; DatasheetVersion: Sep-2009; PackageVersion: revD, Aug-2008; PackageReference: MF05A; PackageDescription: Molded SOT-23, .115 x .063 x .040 in Body, 5 Lead, .0375 in Pitch; RoHS: Y; PinCount: 5; High-Reliability: Y; ComponentLink1Description: Manufacturer URL; ComponentLink1URL: http://www.national.com/; ComponentLink2Description: LM26 Datasheet; ComponentLink2URL: http://www.national.com/ds/LM/LM26.pdf; ComponentLink3Description: LM26 Web Page; ComponentLink3URL: http://www.national.com/pf/LM/LM26.html; ComponentLink4Description: MF05A Package Page; ComponentLink4URL: http://www.national.com/packaging/folders/mf05a.html
footprint MF05A_N (SOT23, 5-Leads, Body 2.9x1.6mm, Pitch 0.95mm, Lead Span 2.8mm, IPC Medium Density)
footprint MF05A_L (SOT23, 5-Leads, Body 2.9x1.6mm, Pitch 0.95mm, Lead Span 2.8mm, IPC High Density)
footprint MF05A_M (SOT23, 5-Leads, Body 2.9x1.6mm, Pitch 0.95mm, Lead Span 2.8mm, IPC Low Density)
pins: 1 HYST (in), 2 GND (power), 3 VTEMP (out), 4 V+ (power), 5 ~{OS}, OS/~{US}, US (out)

## LM26CIM5-XHA
designator U?
±3°C Accurate, Factory Preset Thermostat, 5-pin SOT-23; PartNumber: LM26CIM5-XHA; Manufacturer: National Semiconductor; PackageTopMarking: TXHA*XTT; PowerWise: Y; CompType: OtherParts; DatasheetVersion: Sep-2009; PackageVersion: revD, Aug-2008; PackageReference: MF05A; PackageDescription: Molded SOT-23, .115 x .063 x .040 in Body, 5 Lead, .0375 in Pitch; RoHS: N; PinCount: 5; High-Reliability: Y; ComponentLink1Description: Manufacturer URL; ComponentLink1URL: http://www.national.com/; ComponentLink2Description: LM26 Datasheet; ComponentLink2URL: http://www.national.com/ds/LM/LM26.pdf; ComponentLink3Description: LM26 Web Page; ComponentLink3URL: http://www.national.com/pf/LM/LM26.html; ComponentLink4Description: MF05A Package Page; ComponentLink4URL: http://www.national.com/packaging/folders/mf05a.html
footprint MF05A_N (SOT23, 5-Leads, Body 2.9x1.6mm, Pitch 0.95mm, Lead Span 2.8mm, IPC Medium Density)
footprint MF05A_L (SOT23, 5-Leads, Body 2.9x1.6mm, Pitch 0.95mm, Lead Span 2.8mm, IPC High Density)
footprint MF05A_M (SOT23, 5-Leads, Body 2.9x1.6mm, Pitch 0.95mm, Lead Span 2.8mm, IPC Low Density)
pins: 1 HYST (in), 2 GND (power), 3 VTEMP (out), 4 V+ (power), 5 ~{OS}, OS/~{US}, US (out)

## LM26CIM5-XHA/NOPB
designator U?
±3°C Accurate, Factory Preset Thermostat, 5-pin SOT-23, Pb-Free; PartNumber: LM26CIM5-XHA/NOPB; Manufacturer: National Semiconductor; PackageTopMarking: TXHA*XTT; PowerWise: Y; CompType: OtherParts; DatasheetVersion: Sep-2009; PackageVersion: revD, Aug-2008; PackageReference: MF05A; PackageDescription: Molded SOT-23, .115 x .063 x .040 in Body, 5 Lead, .0375 in Pitch; RoHS: Y; PinCount: 5; High-Reliability: Y; ComponentLink1Description: Manufacturer URL; ComponentLink1URL: http://www.national.com/; ComponentLink2Description: LM26 Datasheet; ComponentLink2URL: http://www.national.com/ds/LM/LM26.pdf; ComponentLink3Description: LM26 Web Page; ComponentLink3URL: http://www.national.com/pf/LM/LM26.html; ComponentLink4Description: MF05A Package Page; ComponentLink4URL: http://www.national.com/packaging/folders/mf05a.html
footprint MF05A_N (SOT23, 5-Leads, Body 2.9x1.6mm, Pitch 0.95mm, Lead Span 2.8mm, IPC Medium Density)
footprint MF05A_L (SOT23, 5-Leads, Body 2.9x1.6mm, Pitch 0.95mm, Lead Span 2.8mm, IPC High Density)
footprint MF05A_M (SOT23, 5-Leads, Body 2.9x1.6mm, Pitch 0.95mm, Lead Span 2.8mm, IPC Low Density)
pins: 1 HYST (in), 2 GND (power), 3 VTEMP (out), 4 V+ (power), 5 ~{OS}, OS/~{US}, US (out)

## LM26CIM5-XPA
designator U?
±3°C Accurate, Factory Preset Thermostat, 5-pin SOT-23; PartNumber: LM26CIM5-XPA; Manufacturer: National Semiconductor; PackageTopMarking: TXPA*XTT; PowerWise: Y; CompType: OtherParts; DatasheetVersion: Sep-2009; PackageVersion: revD, Aug-2008; PackageReference: MF05A; PackageDescription: Molded SOT-23, .115 x .063 x .040 in Body, 5 Lead, .0375 in Pitch; RoHS: N; PinCount: 5; High-Reliability: Y; ComponentLink1Description: Manufacturer URL; ComponentLink1URL: http://www.national.com/; ComponentLink2Description: LM26 Datasheet; ComponentLink2URL: http://www.national.com/ds/LM/LM26.pdf; ComponentLink3Description: LM26 Web Page; ComponentLink3URL: http://www.national.com/pf/LM/LM26.html; ComponentLink4Description: MF05A Package Page; ComponentLink4URL: http://www.national.com/packaging/folders/mf05a.html
footprint MF05A_N (SOT23, 5-Leads, Body 2.9x1.6mm, Pitch 0.95mm, Lead Span 2.8mm, IPC Medium Density)
footprint MF05A_L (SOT23, 5-Leads, Body 2.9x1.6mm, Pitch 0.95mm, Lead Span 2.8mm, IPC High Density)
footprint MF05A_M (SOT23, 5-Leads, Body 2.9x1.6mm, Pitch 0.95mm, Lead Span 2.8mm, IPC Low Density)
pins: 1 HYST (in), 2 GND (power), 3 VTEMP (out), 4 V+ (power), 5 ~{OS}, OS/~{US}, US (out)

## LM26CIM5-XPA/NOPB
designator U?
±3°C Accurate, Factory Preset Thermostat, 5-pin SOT-23, Pb-Free; PartNumber: LM26CIM5-XPA/NOPB; Manufacturer: National Semiconductor; PackageTopMarking: TXPA*XTT; PowerWise: Y; CompType: OtherParts; DatasheetVersion: Sep-2009; PackageVersion: revD, Aug-2008; PackageReference: MF05A; PackageDescription: Molded SOT-23, .115 x .063 x .040 in Body, 5 Lead, .0375 in Pitch; RoHS: Y; PinCount: 5; High-Reliability: Y; ComponentLink1Description: Manufacturer URL; ComponentLink1URL: http://www.national.com/; ComponentLink2Description: LM26 Datasheet; ComponentLink2URL: http://www.national.com/ds/LM/LM26.pdf; ComponentLink3Description: LM26 Web Page; ComponentLink3URL: http://www.national.com/pf/LM/LM26.html; ComponentLink4Description: MF05A Package Page; ComponentLink4URL: http://www.national.com/packaging/folders/mf05a.html
footprint MF05A_N (SOT23, 5-Leads, Body 2.9x1.6mm, Pitch 0.95mm, Lead Span 2.8mm, IPC Medium Density)
footprint MF05A_L (SOT23, 5-Leads, Body 2.9x1.6mm, Pitch 0.95mm, Lead Span 2.8mm, IPC High Density)
footprint MF05A_M (SOT23, 5-Leads, Body 2.9x1.6mm, Pitch 0.95mm, Lead Span 2.8mm, IPC Low Density)
pins: 1 HYST (in), 2 GND (power), 3 VTEMP (out), 4 V+ (power), 5 ~{OS}, OS/~{US}, US (out)

## LM26CIM5-YHA
designator U?
±3°C Accurate, Factory Preset Thermostat, 5-pin SOT-23; PartNumber: LM26CIM5-YHA; Manufacturer: National Semiconductor; PackageTopMarking: TYHA*XTT; PowerWise: Y; CompType: OtherParts; DatasheetVersion: Sep-2009; PackageVersion: revD, Aug-2008; PackageReference: MF05A; PackageDescription: Molded SOT-23, .115 x .063 x .040 in Body, 5 Lead, .0375 in Pitch; RoHS: N; PinCount: 5; High-Reliability: Y; ComponentLink1Description: Manufacturer URL; ComponentLink1URL: http://www.national.com/; ComponentLink2Description: LM26 Datasheet; ComponentLink2URL: http://www.national.com/ds/LM/LM26.pdf; ComponentLink3Description: LM26 Web Page; ComponentLink3URL: http://www.national.com/pf/LM/LM26.html; ComponentLink4Description: MF05A Package Page; ComponentLink4URL: http://www.national.com/packaging/folders/mf05a.html
footprint MF05A_N (SOT23, 5-Leads, Body 2.9x1.6mm, Pitch 0.95mm, Lead Span 2.8mm, IPC Medium Density)
footprint MF05A_L (SOT23, 5-Leads, Body 2.9x1.6mm, Pitch 0.95mm, Lead Span 2.8mm, IPC High Density)
footprint MF05A_M (SOT23, 5-Leads, Body 2.9x1.6mm, Pitch 0.95mm, Lead Span 2.8mm, IPC Low Density)
pins: 1 HYST (in), 2 GND (power), 3 VTEMP (out), 4 V+ (power), 5 ~{OS}, OS/~{US}, US (out)

## LM26CIM5-YHA/NOPB
designator U?
±3°C Accurate, Factory Preset Thermostat, 5-pin SOT-23, Pb-Free; PartNumber: LM26CIM5-YHA/NOPB; Manufacturer: National Semiconductor; PackageTopMarking: TYHA*XTT; PowerWise: Y; CompType: OtherParts; DatasheetVersion: Sep-2009; PackageVersion: revD, Aug-2008; PackageReference: MF05A; PackageDescription: Molded SOT-23, .115 x .063 x .040 in Body, 5 Lead, .0375 in Pitch; RoHS: Y; PinCount: 5; High-Reliability: Y; ComponentLink1Description: Manufacturer URL; ComponentLink1URL: http://www.national.com/; ComponentLink2Description: LM26 Datasheet; ComponentLink2URL: http://www.national.com/ds/LM/LM26.pdf; ComponentLink3Description: LM26 Web Page; ComponentLink3URL: http://www.national.com/pf/LM/LM26.html; ComponentLink4Description: MF05A Package Page; ComponentLink4URL: http://www.national.com/packaging/folders/mf05a.html
footprint MF05A_N (SOT23, 5-Leads, Body 2.9x1.6mm, Pitch 0.95mm, Lead Span 2.8mm, IPC Medium Density)
footprint MF05A_L (SOT23, 5-Leads, Body 2.9x1.6mm, Pitch 0.95mm, Lead Span 2.8mm, IPC High Density)
footprint MF05A_M (SOT23, 5-Leads, Body 2.9x1.6mm, Pitch 0.95mm, Lead Span 2.8mm, IPC Low Density)
pins: 1 HYST (in), 2 GND (power), 3 VTEMP (out), 4 V+ (power), 5 ~{OS}, OS/~{US}, US (out)

## LM26CIM5-YPA
designator U?
±3°C Accurate, Factory Preset Thermostat, 5-pin SOT-23; PartNumber: LM26CIM5-YPA; Manufacturer: National Semiconductor; PackageTopMarking: TYPA*XTT; PowerWise: Y; CompType: OtherParts; DatasheetVersion: Sep-2009; PackageVersion: revD, Aug-2008; PackageReference: MF05A; PackageDescription: Molded SOT-23, .115 x .063 x .040 in Body, 5 Lead, .0375 in Pitch; RoHS: N; PinCount: 5; High-Reliability: Y; ComponentLink1Description: Manufacturer URL; ComponentLink1URL: http://www.national.com/; ComponentLink2Description: LM26 Datasheet; ComponentLink2URL: http://www.national.com/ds/LM/LM26.pdf; ComponentLink3Description: LM26 Web Page; ComponentLink3URL: http://www.national.com/pf/LM/LM26.html; ComponentLink4Description: MF05A Package Page; ComponentLink4URL: http://www.national.com/packaging/folders/mf05a.html
footprint MF05A_N (SOT23, 5-Leads, Body 2.9x1.6mm, Pitch 0.95mm, Lead Span 2.8mm, IPC Medium Density)
footprint MF05A_L (SOT23, 5-Leads, Body 2.9x1.6mm, Pitch 0.95mm, Lead Span 2.8mm, IPC High Density)
footprint MF05A_M (SOT23, 5-Leads, Body 2.9x1.6mm, Pitch 0.95mm, Lead Span 2.8mm, IPC Low Density)
pins: 1 HYST (in), 2 GND (power), 3 VTEMP (out), 4 V+ (power), 5 ~{OS}, OS/~{US}, US (out)

## LM26CIM5-YPA/NOPB
designator U?
±3°C Accurate, Factory Preset Thermostat, 5-pin SOT-23, Pb-Free; PartNumber: LM26CIM5-YPA/NOPB; Manufacturer: National Semiconductor; PackageTopMarking: TYPA*XTT; PowerWise: Y; CompType: OtherParts; DatasheetVersion: Sep-2009; PackageVersion: revD, Aug-2008; PackageReference: MF05A; PackageDescription: Molded SOT-23, .115 x .063 x .040 in Body, 5 Lead, .0375 in Pitch; RoHS: Y; PinCount: 5; High-Reliability: Y; ComponentLink1Description: Manufacturer URL; ComponentLink1URL: http://www.national.com/; ComponentLink2Description: LM26 Datasheet; ComponentLink2URL: http://www.national.com/ds/LM/LM26.pdf; ComponentLink3Description: LM26 Web Page; ComponentLink3URL: http://www.national.com/pf/LM/LM26.html; ComponentLink4Description: MF05A Package Page; ComponentLink4URL: http://www.national.com/packaging/folders/mf05a.html
footprint MF05A_N (SOT23, 5-Leads, Body 2.9x1.6mm, Pitch 0.95mm, Lead Span 2.8mm, IPC Medium Density)
footprint MF05A_L (SOT23, 5-Leads, Body 2.9x1.6mm, Pitch 0.95mm, Lead Span 2.8mm, IPC High Density)
footprint MF05A_M (SOT23, 5-Leads, Body 2.9x1.6mm, Pitch 0.95mm, Lead Span 2.8mm, IPC Low Density)
pins: 1 HYST (in), 2 GND (power), 3 VTEMP (out), 4 V+ (power), 5 ~{OS}, OS/~{US}, US (out)

## LM26CIM5-ZHA
designator U?
±3°C Accurate, Factory Preset Thermostat, 5-pin SOT-23; PartNumber: LM26CIM5-ZHA; Manufacturer: National Semiconductor; PackageTopMarking: TZHA*XTT; PowerWise: Y; CompType: OtherParts; DatasheetVersion: Sep-2009; PackageVersion: revD, Aug-2008; PackageReference: MF05A; PackageDescription: Molded SOT-23, .115 x .063 x .040 in Body, 5 Lead, .0375 in Pitch; RoHS: N; PinCount: 5; High-Reliability: Y; ComponentLink1Description: Manufacturer URL; ComponentLink1URL: http://www.national.com/; ComponentLink2Description: LM26 Datasheet; ComponentLink2URL: http://www.national.com/ds/LM/LM26.pdf; ComponentLink3Description: LM26 Web Page; ComponentLink3URL: http://www.national.com/pf/LM/LM26.html; ComponentLink4Description: MF05A Package Page; ComponentLink4URL: http://www.national.com/packaging/folders/mf05a.html
footprint MF05A_N (SOT23, 5-Leads, Body 2.9x1.6mm, Pitch 0.95mm, Lead Span 2.8mm, IPC Medium Density)
footprint MF05A_L (SOT23, 5-Leads, Body 2.9x1.6mm, Pitch 0.95mm, Lead Span 2.8mm, IPC High Density)
footprint MF05A_M (SOT23, 5-Leads, Body 2.9x1.6mm, Pitch 0.95mm, Lead Span 2.8mm, IPC Low Density)
pins: 1 HYST (in), 2 GND (power), 3 VTEMP (out), 4 V+ (power), 5 ~{OS}, OS/~{US}, US (out)

## LM26CIM5-ZHA/NOPB
designator U?
±3°C Accurate, Factory Preset Thermostat, 5-pin SOT-23, Pb-Free; PartNumber: LM26CIM5-ZHA/NOPB; Manufacturer: National Semiconductor; PackageTopMarking: TZHA*XTT; PowerWise: Y; CompType: OtherParts; DatasheetVersion: Sep-2009; PackageVersion: revD, Aug-2008; PackageReference: MF05A; PackageDescription: Molded SOT-23, .115 x .063 x .040 in Body, 5 Lead, .0375 in Pitch; RoHS: Y; PinCount: 5; High-Reliability: Y; ComponentLink1Description: Manufacturer URL; ComponentLink1URL: http://www.national.com/; ComponentLink2Description: LM26 Datasheet; ComponentLink2URL: http://www.national.com/ds/LM/LM26.pdf; ComponentLink3Description: LM26 Web Page; ComponentLink3URL: http://www.national.com/pf/LM/LM26.html; ComponentLink4Description: MF05A Package Page; ComponentLink4URL: http://www.national.com/packaging/folders/mf05a.html
footprint MF05A_N (SOT23, 5-Leads, Body 2.9x1.6mm, Pitch 0.95mm, Lead Span 2.8mm, IPC Medium Density)
footprint MF05A_L (SOT23, 5-Leads, Body 2.9x1.6mm, Pitch 0.95mm, Lead Span 2.8mm, IPC High Density)
footprint MF05A_M (SOT23, 5-Leads, Body 2.9x1.6mm, Pitch 0.95mm, Lead Span 2.8mm, IPC Low Density)
pins: 1 HYST (in), 2 GND (power), 3 VTEMP (out), 4 V+ (power), 5 ~{OS}, OS/~{US}, US (out)